# Altium footprint library KN2CLib.PcbLib: 124 footprints (part 7 of 8)
Each footprint in its own frame and in the unit in brackets; x right, y up, seen from the top. Pads: shape width x height; smd on the part's side, far side on the other; paste and mask are expansions set on the pad; w line width, h text height; cw(c..) or ccw(c..) is an arc to the next point about the centre after c.
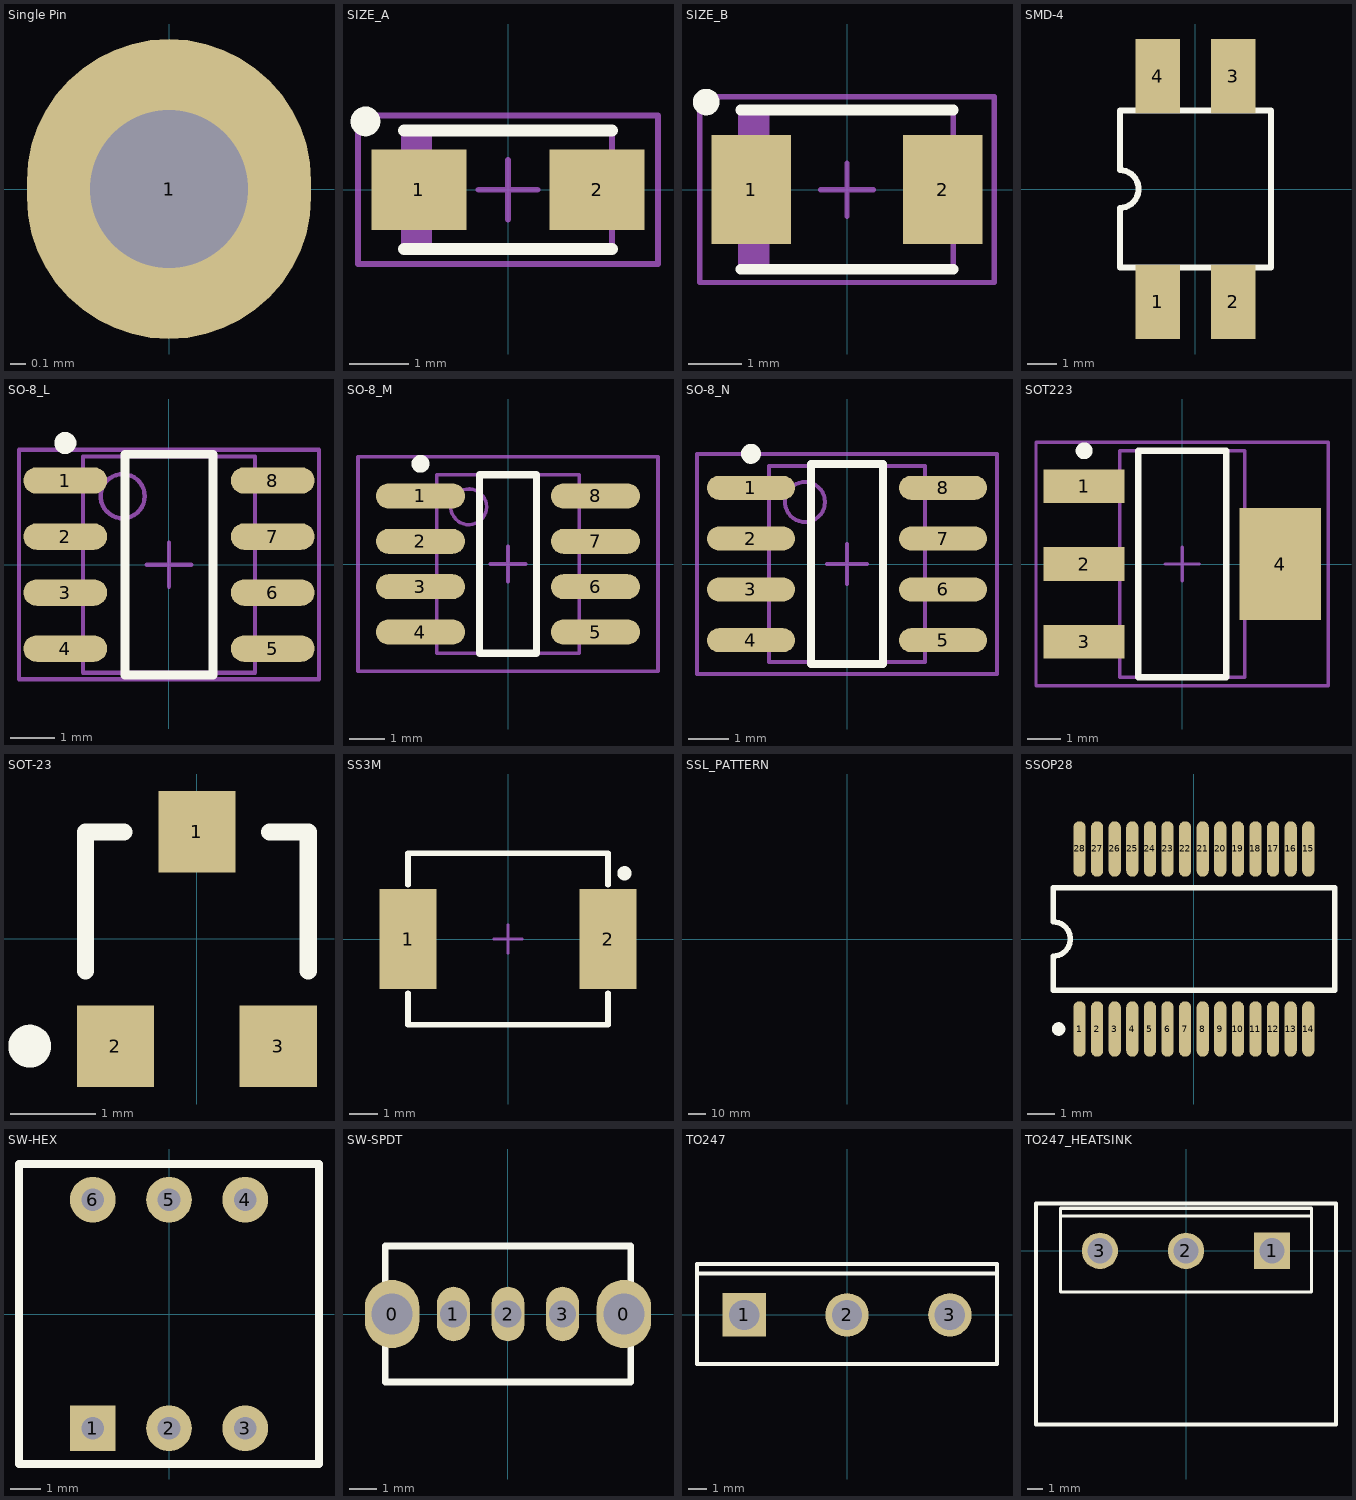
[diagram p6: the footprints below, top view; thin cyan lines are the x and y axes]

## Single Pin [mm] "A Single Pin"
pads (1):
  oval 1.8x1.9 hole 1: 1(0,0)

## SIZE_A [mm] "Molded Capacitor, 2-Leads, Body 3.4x1.9mm, IPC Medium Density"
height 2
pads (2):
  rect 1.6x1.35 smd: 1(-1.5,0) 2(1.5,0)
Top Overlay:
  circle w0.25: c-2.4,1.15 r0.125
  lines w0.2: -1.75,-1 1.75,-1 ; -1.75,1 1.75,1
Mechanical 13:
  rectangle: -1.75,-1 -1.279,1
  lines w0.1: -1.75,-1 -1.75,1 1.75,1 1.75,-1 -1.75,-1
Mechanical 15:
  lines w0.1: -0.5,0 0.5,0 ; 0,-0.5 0,0.5 ; -2.525,-1.25 -2.525,1.25 2.525,1.25 2.525,-1.25 -2.525,-1.25
3D body: height 2, standoff 0, extent -1.75,-1 1.75,1

## SIZE_B [mm] "Molded Capacitor, 2-Leads, Body 3.9x3.0mm, IPC Medium Density"
height 2
pads (2):
  rect 1.5x2.05 smd: 1(-1.8,0) 2(1.8,0)
Top Overlay:
  circle w0.25: c-2.65,1.65 r0.125
  lines w0.2: -2,-1.5 2,-1.5 ; -2,1.5 2,1.5
Mechanical 13:
  rectangle: -2,-1.5 -1.462,1.5
  lines w0.1: -2,-1.5 2,-1.5 2,1.5 -2,1.5 -2,-1.5
Mechanical 15:
  lines w0.1: -0.5,0 0.5,0 ; 0,-0.5 0,0.5 ; -2.775,-1.75 2.775,-1.75 2.775,1.75 -2.775,1.75 -2.775,-1.75
3D body: height 2, standoff 0, extent -2,-1.5 2,1.5

## SMD-4 [mm] "DIP; 4 Leads; Row Spacing 7.62 mm; Pitch 2.54 mm"
height 5.6
pads (4):
  rect 1.5x2.5 smd: 1(-1.27,-3.81) 2(1.27,-3.81) 3(1.27,3.81) 4(-1.27,3.81)
Top Overlay:
  lines w0.2: -2.55,-2.65 2.55,-2.65 2.55,2.65 -2.55,2.65 -2.55,0.635 cw(c-2.55,0) -2.55,-0.635 -2.55,-2.65

## SO-8_L [mm] "8-Pin Small Outline Integrated Circuit 1.27 mm Pitch, IPC High Density"
height 1.75
pads (8):
  oval 1.9x0.6 smd: 1(-2.35,1.905) 2(-2.35,0.635) 3(-2.35,-0.635) 4(-2.35,-1.905) 5(2.35,-1.905) 6(2.35,-0.635) 7(2.35,0.635) 8(2.35,1.905)
Top Overlay:
  circle w0.25: c-2.35,2.755 r0.125
  lines w0.2: -1,-2.5 1,-2.5 1,2.5 -1,2.5 -1,-2.5
Mechanical 13:
  circle w0.1: c-1.05,1.55 r0.5
  lines w0.1: -1.95,-2.45 1.95,-2.45 1.95,2.45 -1.95,2.45 -1.95,-2.45
Mechanical 15:
  lines w0.1: -0.5,0 0.5,0 ; 0,-0.5 0,0.5 ; -3.4,-2.6 3.4,-2.6 3.4,2.6 -3.4,2.6 -3.4,-2.6
3D body: height 1.75, standoff 0, extent -1.95,-2.45 1.95,2.45

## SO-8_M [mm] "8-Pin Small Outline Integrated Circuit 1.27 mm Pitch, IPC Low Density"
height 1.75
pads (8):
  oval 2.5x0.7 smd: 1(-2.45,1.905) 2(-2.45,0.635) 3(-2.45,-0.635) 4(-2.45,-1.905) 5(2.45,-1.905) 6(2.45,-0.635) 7(2.45,0.635) 8(2.45,1.905)
Top Overlay:
  circle w0.25: c-2.45,2.805 r0.125
  lines w0.2: -0.8,-2.5 0.8,-2.5 0.8,2.5 -0.8,2.5 -0.8,-2.5
Mechanical 13:
  circle w0.1: c-1.1,1.6 r0.5
  lines w0.1: -2,-2.5 2,-2.5 2,2.5 -2,2.5 -2,-2.5
Mechanical 15:
  lines w0.1: -0.5,0 0.5,0 ; 0,-0.5 0,0.5 ; -4.2,-3 4.2,-3 4.2,3 -4.2,3 -4.2,-3
3D body: height 1.75, standoff 0, extent -2,-2.5 2,2.5

## SO-8_N [mm] "8-Pin Small Outline Integrated Circuit 1.27 mm Pitch, IPC Medium Density"
height 1.75
pads (8):
  oval 2.2x0.6 smd: 1(-2.4,1.905) 2(-2.4,0.635) 3(-2.4,-0.635) 4(-2.4,-1.905) 5(2.4,-1.905) 6(2.4,-0.635) 7(2.4,0.635) 8(2.4,1.905)
Top Overlay:
  circle w0.25: c-2.4,2.755 r0.125
  lines w0.2: -0.9,-2.5 0.9,-2.5 0.9,2.5 -0.9,2.5 -0.9,-2.5
Mechanical 13:
  circle w0.1: c-1.05,1.55 r0.5
  lines w0.1: -1.95,-2.45 1.95,-2.45 1.95,2.45 -1.95,2.45 -1.95,-2.45
Mechanical 15:
  lines w0.1: -0.5,0 0.5,0 ; 0,-0.5 0,0.5 ; -3.75,-2.75 3.75,-2.75 3.75,2.75 -3.75,2.75 -3.75,-2.75
3D body: height 1.75, standoff 0, extent -1.95,-2.45 1.95,2.45

## SOT223 [mm] "SOT223, 4-Leads, Body 6.7x7.3mm (max), Pitch 2.30mm, IPC Medium Density"
height 1.8
pads (4):
  rect 2.4x1 smd: 1(-2.9,2.3) 2(-2.9,0) 3(-2.9,-2.3)
  rect 2.4x3.3 smd: 4(2.9,0)
Top Overlay:
  circle w0.25: c-2.9,3.35 r0.125
  lines w0.2: -1.3,-3.35 1.3,-3.35 1.3,3.35 -1.3,3.35 -1.3,-3.35
Mechanical 13:
  lines w0.1: -1.85,-3.35 1.85,-3.35 1.85,3.35 -1.85,3.35 -1.85,-3.35
Mechanical 15:
  lines w0.1: -0.5,0 0.5,0 ; 0,-0.5 0,0.5 ; -4.325,-3.6 4.325,-3.6 4.325,3.6 -4.325,3.6 -4.325,-3.6
3D body: height 1.8, standoff 0.02, extent -1.85,-3.35 1.85,3.35

## SOT-23 [mm] "SOT-23; 3 Leads; Body 3.0 x 2.6 mm, inc. leads (LxW max)"
height 1.1
pads (3):
  rect 0.9x0.95 smd: 1(0,1.25) 2(-0.95,-1.25) 3(0.95,-1.25)
Top Overlay:
  circle w0.25: c-1.95,-1.25 r0.125
  lines w0.2: -1.3,-0.375 -1.3,1.25 -0.85,1.25 ; 0.85,1.25 1.3,1.25 1.3,-0.375
3D body: height 2, standoff 0, extent -1.325,-0.375 1.325,1.25

## SS3M [mm]
pads (2):
  rect 2x3.5 smd: 1(-3.5,0) 2(3.5,0)
Top Overlay:
  circle w0.25: c4.075,2.3 r0.125
  lines w0.2: -3.5,-1.9 -3.5,-3 3.5,-3 3.5,-1.9 ; -3.5,1.9 -3.5,3 3.5,3 3.5,1.9
Mechanical 15:
  lines w0.1: -0.5,0 0.5,0 ; 0,-0.5 0,0.5
3D body: height 2.3, standoff 0, extent -3.5,-3 3.5,3

## SSL_PATTERN [mm]
Drill Guide:
  circle w0.254: c-35,-54.772 r20
  circle w0.254: c35,-54.772 r20
  circle w0.254: c54.772,35 r20
  circle w0.254: c-54.772,35 r20
  circle w0.254: c0,0 r25
  lines w0.254: -64.81,55 64.804,55 ; -64.808,54.999 ccw(c0,0) 64.804,55.004

## SSOP28 [mm] "SSOP; 28 Leads; Body Width 5.3 mm; Pitch 0.65 mm"
height 1.99
pads (28):
  oval 0.45x2.05 smd: 1(-4.225,-3.325) 2(-3.575,-3.325) 3(-2.925,-3.325) 4(-2.275,-3.325) 5(-1.625,-3.325) 6(-0.975,-3.325) 7(-0.325,-3.325) 8(0.325,-3.325) 9(0.975,-3.325) 10(1.625,-3.325) 11(2.275,-3.325) 12(2.925,-3.325) 13(3.575,-3.325) 14(4.225,-3.325) 15(4.225,3.325) 16(3.575,3.325) 17(2.925,3.325) 18(2.275,3.325) 19(1.625,3.325) 20(0.975,3.325) 21(0.325,3.325) 22(-0.325,3.325) 23(-0.975,3.325) 24(-1.625,3.325) 25(-2.275,3.325) 26(-2.925,3.325) 27(-3.575,3.325) 28(-4.225,3.325)
Top Overlay:
  circle w0.25: c-5,-3.325 r0.125
  lines w0.2: -5.2,-1.9 -5.2,-0.633 ccw(c-5.2,0) -5.2,0.633 -5.2,1.9 5.2,1.9 5.2,-1.9 -5.2,-1.9
3D body: height 2, standoff 0, extent -5.2,-2.4 5.225,2.425

## SW-HEX [mil]
pads (6):
  rect 60x60 hole 30: 1(-100,-150)
  round 60 hole 30: 2(0,-150) 3(100,-150) 4(100,150) 5(0,150) 6(-100,150)
Top Overlay:
  lines w10: -196.85,-196.85 -196.85,196.85 196.85,196.85 196.85,-196.85 -196.85,-196.85
3D body: height 78.74, standoff 0, extent -197.83,-198.82 194.88,196.85

## SW-SPDT [mm]
pads (5):
  oval 2x2.5 hole 1.5: 0(-4.25,0) 0(4.25,0)
  oval 1.2x2 hole 1: 1(-2,0) 2(0,0) 3(2,0)
Top Overlay:
  lines w0.254: -4.5,-2.5 -4.5,2.5 4.5,2.5 4.5,-2.5 -4.5,-2.5
3D body: height 5, standoff 0, extent -4.521,-2.54 4.47,2.489

## TO247 [mm] "SIP with Mounting Hole; 3 Leads; Body 20 x 15.6 x 5 mm (typ); Pitch 5.45 mm"
height 24.5
pads (3):
  rect 2.3x2.3 hole 1.6: 1(-5.45,0)
  round 2.3 hole 1.6: 2(0,0) 3(5.45,0)
Top Overlay:
  lines w0.2: -7.95,2.2 7.95,2.2 ; -7.95,-2.6 7.95,-2.6 7.95,2.7 -7.95,2.7 -7.95,-2.6

## TO247_HEATSINK [mm] "SIP with Mounting Hole; 3 Leads; Body 20 x 15.6 x 5 mm (typ); Pitch 5.45 mm"
height 24.5
pads (3):
  rect 2.3x2.3 hole 1.6: 1(5.45,0)
  round 2.3 hole 1.6: 2(0,0) 3(-5.45,0)
Top Overlay:
  lines w0.2: -7.95,2.2 7.95,2.2 ; -7.95,-2.6 -7.95,2.7 7.95,2.7 7.95,-2.6 -7.95,-2.6
  lines w0.254: -9.5,-11 9.5,-11 9.5,3 -9.5,3 -9.5,-11